# EAGLE library part PIC18F46J50 (library WSNlib)
PIC18F46J50 USB Microcontroller w/ RTC http://ww1.microchip.com/downloads/en/DeviceDoc/39931d.pdf
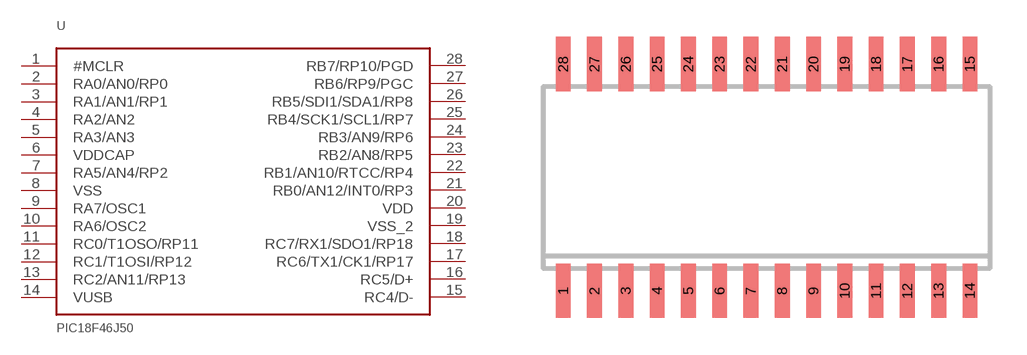
[diagram p9: symbol with the pads of SO28W; footprint SO28W]

Designator prefix U

## PIC18F46J50  [SO28W]
1  #MCLR
2  RA0/AN0/RP0
3  RA1/AN1/RP1
4  RA2/AN2
5  RA3/AN3
6  VDDCAP
7  RA5/AN4/RP2
8  VSS
9  RA7/OSC1
10  RA6/OSC2
11  RC0/T1OSO/RP11
12  RC1/T1OSI/RP12
13  RC2/AN11/RP13
14  VUSB
15  RC4/D-
16  RC5/D+
17  RC6/TX1/CK1/RP17
18  RC7/RX1/SDO1/RP18
19  VSS_2
20  VDD
21  RB0/AN12/INT0/RP3
22  RB1/AN10/RTCC/RP4
23  RB2/AN8/RP5
24  RB3/AN9/RP6
25  RB4/SCK1/SCL1/RP7
26  RB5/SDI1/SDA1/RP8
27  RB6/RP9/PGC
28  RB7/RP10/PGD

## Footprint SO28W (pad centres in mm)
SMALL OUTLINE INTEGRATED CIRCUIT wide body 7.5 mm/JEDEC MO-119AB
smd 0.6 x 2.2: 1 -8.255,-4.6; 2 -6.985,-4.6; 3 -5.715,-4.6; 4 -4.445,-4.6; 5 -3.175,-4.6; 6 -1.905,-4.6; 7 -0.635,-4.6; 8 0.635,-4.6; 9 1.905,-4.6; 10 3.175,-4.6; 11 4.445,-4.6; 12 5.715,-4.6; 13 6.985,-4.6; 14 8.255,-4.6; 15 8.255,4.6; 16 6.985,4.6; 17 5.715,4.6; 18 4.445,4.6; 19 3.175,4.6; 20 1.905,4.6; 21 0.635,4.6; 22 -0.635,4.6; 23 -1.905,4.6; 24 -3.175,4.6; 25 -4.445,4.6; 26 -5.715,4.6; 27 -6.985,4.6; 28 -8.255,4.6